# EAGLE library part CON_USB3_MOLEX_484080003 (library WCSMain)
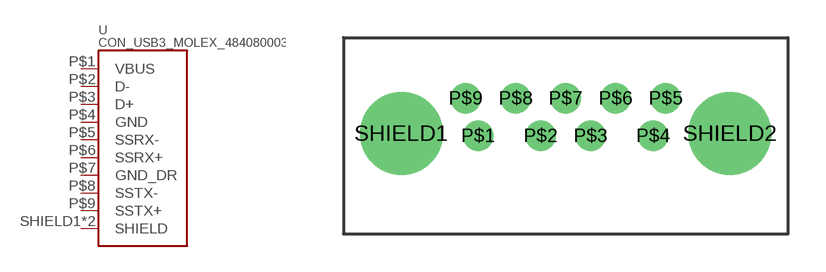
[diagram p20: symbol with the pads of CON_USB3_MOLEX_484080003; footprint CON_USB3_MOLEX_484080003]

Designator prefix -

## CON_USB3_MOLEX_484080003  [CON_USB3_MOLEX_484080003]
P$1  VBUS  pas
P$2  D-  pas
P$3  D+  pas
P$4  GND  pas
P$5  SSRX-  pas
P$6  SSRX+  pas
P$7  GND_DR  pas
P$8  SSTX-  pas
P$9  SSTX+  pas
SHIELD1  SHIELD  pas
SHIELD2  SHIELD  pas

## Footprint CON_USB3_MOLEX_484080003 (pad centres in mm)
drill 0.7: P$1 -3.5,0; P$2 -1,0; P$3 1,0; P$4 3.5,0; P$5 4,1.5; P$6 2,1.5; P$7 0,1.5; P$8 -2,1.5; P$9 -4,1.5
drill 2.3: SHIELD1 -6.57,0.1; SHIELD2 6.57,0.1